# EAGLE library part IRS2552DSPBF (library International_Rectifier_By_element14_Batch_1)
CCFL/EEFL BALLAST CONTROLLER IC
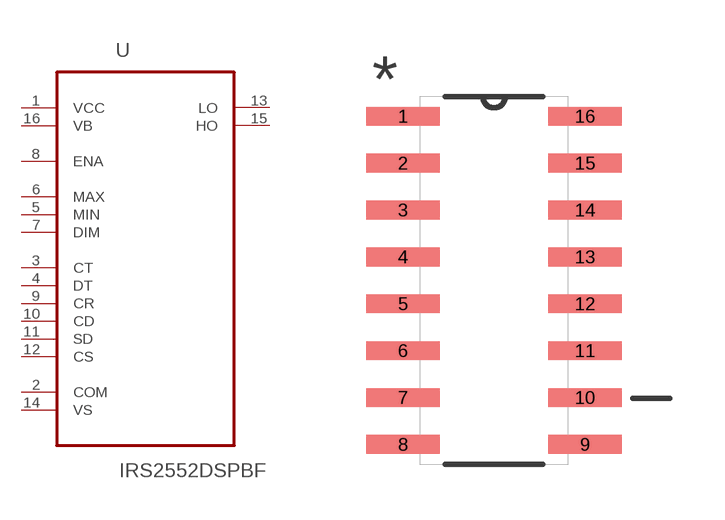
[diagram p103: symbol with the pads of SOIC127P600X175-16N; footprint SOIC127P600X175-16N]

Designator prefix U

## IRS2552DSPBF (MPN: IRS2552DSPBF; OC_FARNELL: 1866040; OC_NEWARK: 39T4528; PACKAGE: SOIC-16; SUPPLIER: International Rectifier)  [SOIC127P600X175-16N]
1  VCC  pwr
2  COM  pas
3  CT  in
4  DT  in
5  MIN  in
6  MAX  in
7  DIM  in
8  ENA  in
9  CR  in
10  CD  in
11  SD  in
12  CS  in
13  LO  out
14  VS  in
15  HO  out
16  VB  pwr

## Footprint SOIC127P600X175-16N (pad centres in mm)
smd 1.981 x 0.508: 1 -2.464,4.445; 2 -2.464,3.175; 3 -2.464,1.905; 4 -2.464,0.635; 5 -2.464,-0.635; 6 -2.464,-1.905; 7 -2.464,-3.175; 8 -2.464,-4.445; 9 2.464,-4.445; 10 2.464,-3.175; 11 2.464,-1.905; 12 2.464,-0.635; 13 2.464,0.635; 14 2.464,1.905; 15 2.464,3.175; 16 2.464,4.445